# Altium schematic symbol library SCH - POWER - SWITCHMODE - TI TPS61061_DRB_8.SchLib: 1 symbol
Pins are listed as number, name and electrical type; pins without a type are passive.

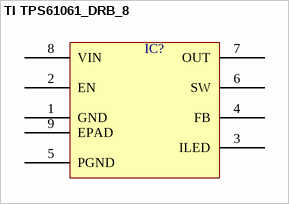
[diagram p0: symbol TI TPS61061_DRB_8]

## TI TPS61061_DRB_8
designator IC?  (value not drawn)
pins: 1 GND, 2 EN, 3 ILED, 4 FB, 5 PGND, 6 SW, 7 OUT, 8 VIN, 9 EPAD